# Altium footprint library RESC2012.PcbLib: 1 footprints
Each footprint in its own frame and in the unit in brackets; x right, y up, seen from the top. Pads: shape width x height; smd on the part's side, far side on the other; paste and mask are expansions set on the pad; w line width, h text height; cw(c..) or ccw(c..) is an arc to the next point about the centre after c.
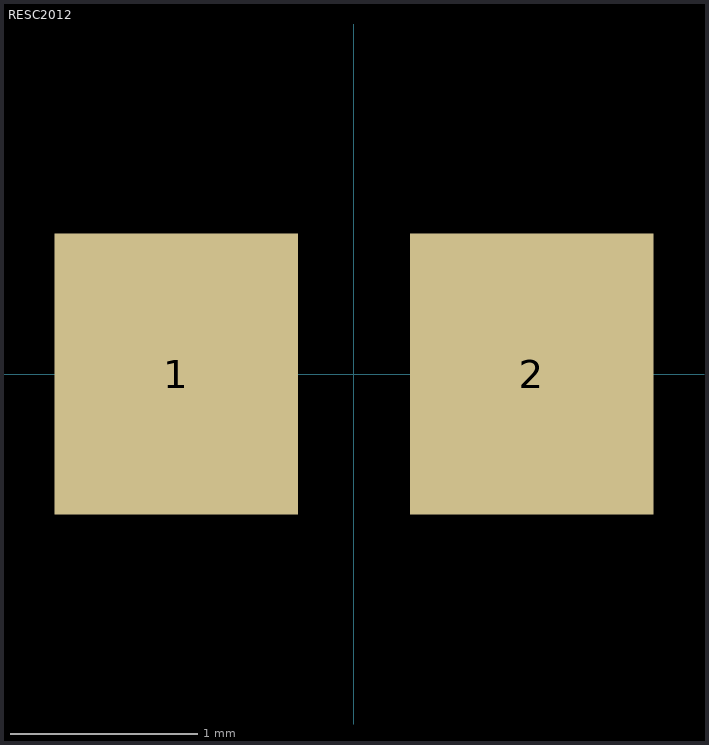
[diagram p0: the footprint, top view; thin cyan lines are the x and y axes]

## RESC2012 [mm]
pads (2):
  rect 1.3x1.5 smd: 1(-0.95,0) 2(0.95,0)
FabNotes:
  text ".Comment" at -1.427,0.025 h0.2
Design Information:
  text ".Designator" at -1.427,0.025 h0.2